# Altium footprint library TQFP100 12x12x1mm.PcbLib: 1 footprints
Each footprint in its own frame and in the unit in brackets; x right, y up, seen from the top. Pads: shape width x height; smd on the part's side, far side on the other; paste and mask are expansions set on the pad; w line width, h text height; cw(c..) or ccw(c..) is an arc to the next point about the centre after c.
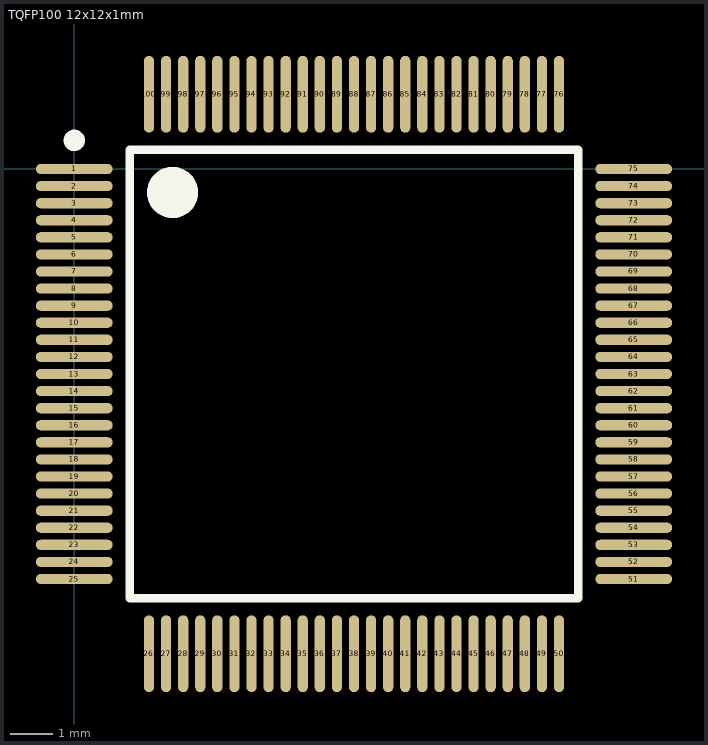
[diagram p0: the footprint, top view; thin cyan lines are the x and y axes]

## TQFP100 12x12x1mm [mm]
pads (100):
  oval 1.8x0.24 smd: 1(0,0) 2(0,-0.4) 3(0,-0.8) 4(0,-1.2) 5(0,-1.6) 6(0,-2) 7(0,-2.4) 8(0,-2.8) 9(0,-3.2) 10(0,-3.6) 11(0,-4) 12(0,-4.4) 13(0,-4.8) 14(0,-5.2) 15(0,-5.6) 16(0,-6) 17(0,-6.4) 18(0,-6.8) 19(0,-7.2) 20(0,-7.6) 21(0,-8) 22(0,-8.4) 23(0,-8.8) 24(0,-9.2) 25(0,-9.6) 51(13.1,-9.6) 52(13.1,-9.2) 53(13.1,-8.8) 54(13.1,-8.4) 55(13.1,-8) 56(13.1,-7.6) 57(13.1,-7.2) 58(13.1,-6.8) 59(13.1,-6.4) 60(13.1,-6) 61(13.1,-5.6) 62(13.1,-5.2) 63(13.1,-4.8) 64(13.1,-4.4) 65(13.1,-4) 66(13.1,-3.6) 67(13.1,-3.2) 68(13.1,-2.8) 69(13.1,-2.4) 70(13.1,-2) 71(13.1,-1.6) 72(13.1,-1.2) 73(13.1,-0.8) 74(13.1,-0.4) 75(13.1,0)
  oval 0.24x1.8 smd: 26(1.75,-11.35) 27(2.15,-11.35) 28(2.55,-11.35) 29(2.95,-11.35) 30(3.35,-11.35) 31(3.75,-11.35) 32(4.15,-11.35) 33(4.55,-11.35) 34(4.95,-11.35) 35(5.35,-11.35) 36(5.75,-11.35) 37(6.15,-11.35) 38(6.55,-11.35) 39(6.95,-11.35) 40(7.35,-11.35) 41(7.75,-11.35) 42(8.15,-11.35) 43(8.55,-11.35) 44(8.95,-11.35) 45(9.35,-11.35) 46(9.75,-11.35) 47(10.15,-11.35) 48(10.55,-11.35) 49(10.95,-11.35) 50(11.35,-11.35) 76(11.35,1.75) 77(10.95,1.75) 78(10.55,1.75) 79(10.15,1.75) 80(9.75,1.75) 81(9.35,1.75) 82(8.95,1.75) 83(8.55,1.75) 84(8.15,1.75) 85(7.75,1.75) 86(7.35,1.75) 87(6.95,1.75) 88(6.55,1.75) 89(6.15,1.75) 90(5.75,1.75) 91(5.35,1.75) 92(4.95,1.75) 93(4.55,1.75) 94(4.15,1.75) 95(3.75,1.75) 96(3.35,1.75) 97(2.95,1.75) 98(2.55,1.75) 99(2.15,1.75) 100(1.75,1.75)
TopOverlay:
  circle w0.6: c2.3,-0.55 r0.3
  circle w0.25: c0,0.67 r0.125
  lines w0.2: 1.3,-10.05 11.8,-10.05 11.8,0.45 1.3,0.45 1.3,-10.05
3D body: height 1.35, standoff 0, extent -0.458,-11.812 13.564,2.211